# Altium schematic symbol library L298N.SchLib: 1 symbol
Pins are listed as number, name and electrical type; pins without a type are passive.

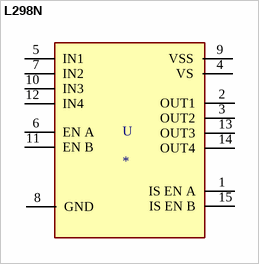
[diagram p0: symbol L298N]

## L298N
designator U
Half Bridge _4_ Driver DC Motors, Relays, Solenoids, Stepper Motors Bipolar 15-Multiwatt; MP: L298N; MF: STMicroelectronics; Package: Multiwatt-15 STMicroelectronics; Price: None; Availability: Unavailable; Value: *; SnapEDA_Link: https://www.snapeda.com/parts/L298N/STMicroelectronics/view-part/294022/?ref=snap
footprint TO127P2020X500X2100-15
pins: 1 IS EN A, 2 OUT1 (hiz), 3 OUT2 (hiz), 4 VS (power), 5 IN1 (hiz), 6 EN A (hiz), 7 IN2 (hiz), 8 GND (hiz), 9 VSS (hiz), 10 IN3 (hiz), 11 EN B (hiz), 12 IN4 (hiz), 13 OUT3 (hiz), 14 OUT4 (hiz), 15 IS EN B